# EAGLE library part BGA725L6E6327FTSA1 (library BGA725L6E6327FTSA1)
INFINEON - BGA725L6E6327FTSA1 - RF AMP, 20DB, 1.615GHZ, 3.6V, TSLP-6 Source: Datasheet <https://www.infineon.com/dgdl/Infineon-BGA725L6-DS-v02_00-en.pdf?fileId=db3a30433784a0400137ef9a4d341f23>
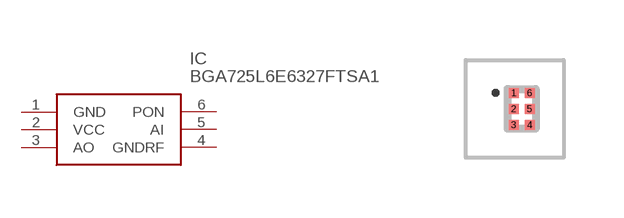
[diagram p0: symbol with the pads of BGS12SN6E6327XTSA1; footprint BGS12SN6E6327XTSA1]

Designator prefix IC

## BGA725L6E6327FTSA1 (Arrow_Part_Number: BGA725L6E6327FTSA1; Arrow_Price-Stock: https://www.arrow.com/en/products/bga725l6e6327ftsa1/infineon-technologies-ag?region=nac; Description: INFINEON - BGA725L6E6327FTSA1 - RF AMP, 20DB, 1.615GHZ, 3.6V, TSLP-6; Height: mm; Manufacturer_Name: Infineon; Manufacturer_Part_Number: BGA725L6E6327FTSA1; Mouser_Part_Number: 726-BGA725L6E6327FTS; Mouser_Price-Stock: https://www.mouser.co.uk/ProductDetail/Infineon-Technologies/BGA725L6E6327FTSA1?qs=4MqXaUMeF57lT69yR2PUGQ%3D%3D)  [BGS12SN6E6327XTSA1]
1  GND
2  VCC
3  AO
4  GNDRF
5  AI
6  PON

## Footprint BGS12SN6E6327XTSA1 (pad centres in mm)
TSNP-6-2
smd 0.25 x 0.25: 1 -0.025,0.4; 2 -0.025,0; 3 -0.025,-0.4; 4 0.375,-0.4; 5 0.375,0; 6 0.375,0.4